# Altium schematic symbol library IRM-10-12.Schlib: 1 symbol
Pins are listed as number, name and electrical type; pins without a type are passive.

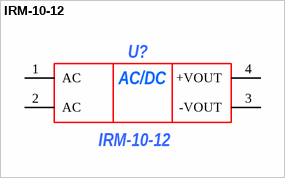
[diagram p0: symbol IRM-10-12]

## IRM-10-12
designator U?
AC/DC преобразователь 12В 10Вт; ComponentLink1Description: *; ComponentLink1URL: *; ComponentLink2Description: *; ComponentLink2URL: *; ManufacturerPartNumber: IRM-10-12; Power/Voltage: *; Rem: *; TKE: *; Tolerance: *; TU/GOST: *; Value: *; Корпус: *; Примечание: *; Manufacturer: *; Author: *; Type: *
pins: 1 AC (power), 2 AC (power), 3 -VOUT (power), 4 +VOUT (power)
text: AC/DC